# Altium schematic symbol library vestibular_vampire.SchLib: 129 symbols (part 1 of 5)
Pins are listed as number, name and electrical type; pins without a type are passive.

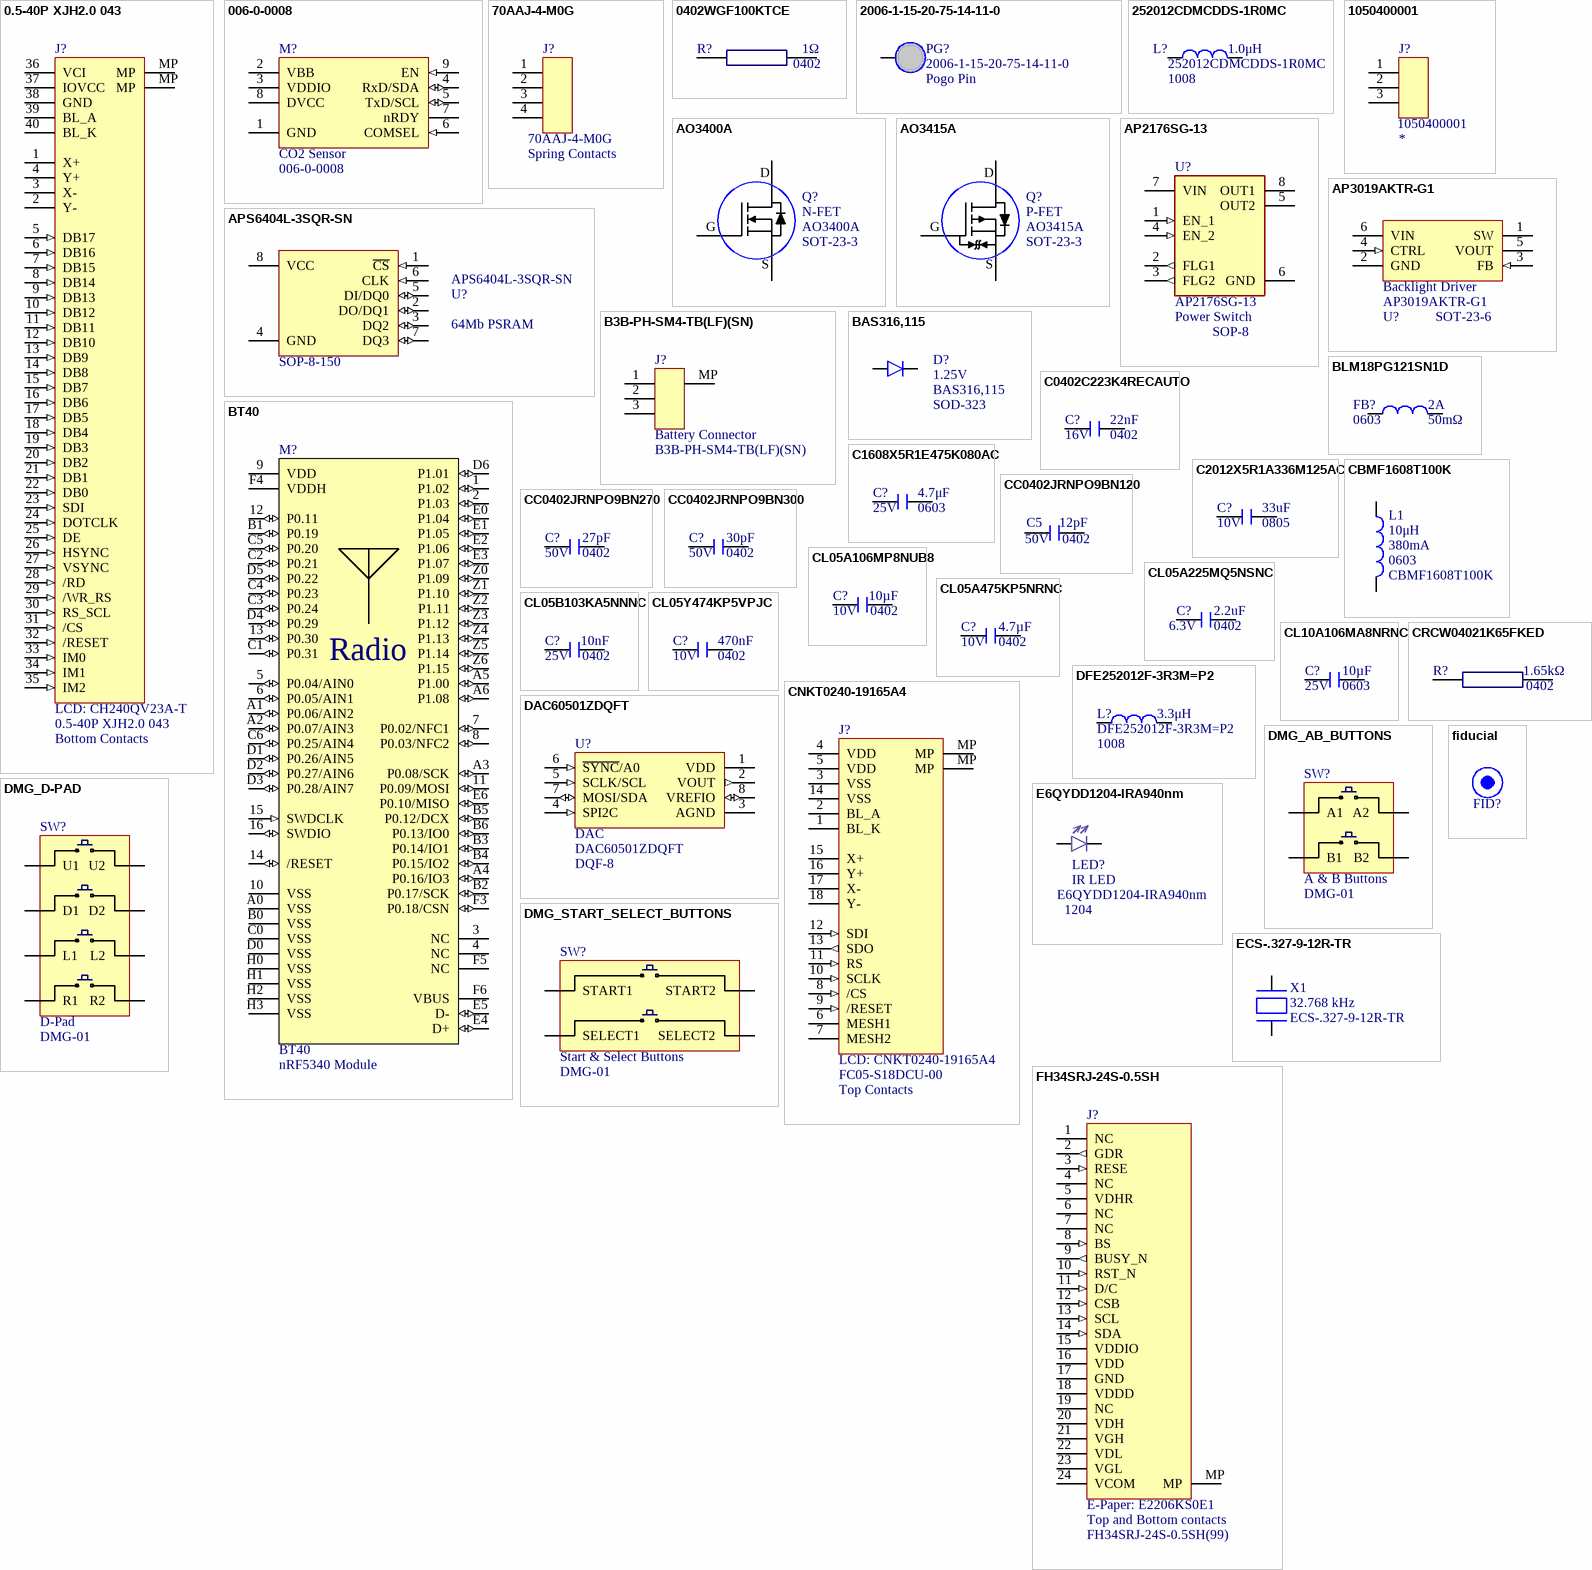
[diagram p0: symbols 0.5-40P XJH2.0 043 to fiducial]

## 0.5-40P XJH2.0 043
designator J?, comment LCD: CH240QV23A-T  contact_side: Bottom Contacts  Manufacturer Part Number: 0.5-40P XJH2.0 043
40-Pin, 0.5 mm pitch, bottom contact, flat flex connector for LCD CH240QV23A-T; Supplier 1: LCSC; Supplier Part Number 1: C5373441; LCD Part Number: CH240QV23A-T; house_part_number: 0.5-40P XJH2.0 043
footprint CH240QV23A-T
pins: 1 X+ "Touch Panel", 2 Y- "Touch Panel", 3 X- "Touch Panel", 4 Y+ "Touch Panel", 5 DB17 (in) "18-bit parallel bi-directional data bus for MCU/RGB I/F. Connect unused pins to GND.", 6 DB16 (in) "18-bit parallel bi-directional data bus for MCU/RGB I/F. Connect unused pins to GND.", 7 DB15 (in) "18-bit parallel bi-directional data bus for MCU/RGB I/F. Connect unused pins to GND.", 8 DB14 (in) "18-bit parallel bi-directional data bus for MCU/RGB I/F. Connect unused pins to GND.", 9 DB13 (in) "18-bit parallel bi-directional data bus for MCU/RGB I/F. Connect unused pins to GND.", 10 DB12 (in) "18-bit parallel bi-directional data bus for MCU/RGB I/F. Connect unused pins to GND.", 11 DB11 (in) "18-bit parallel bi-directional data bus for MCU/RGB I/F. Connect unused pins to GND.", 12 DB10 (in) "18-bit parallel bi-directional data bus for MCU/RGB I/F. Connect unused pins to GND.", 13 DB9 (in) "18-bit parallel bi-directional data bus for MCU/RGB I/F. Connect unused pins to GND.", 14 DB8 (in) "18-bit parallel bi-directional data bus for MCU/RGB I/F. Connect unused pins to GND.", 15 DB7 (in) "18-bit parallel bi-directional data bus for MCU/RGB I/F. Connect unused pins to GND.", 16 DB6 (in) "18-bit parallel bi-directional data bus for MCU/RGB I/F. Connect unused pins to GND.", 17 DB5 (in) "18-bit parallel bi-directional data bus for MCU/RGB I/F. Connect unused pins to GND.", 18 DB4 (in) "18-bit parallel bi-directional data bus for MCU/RGB I/F. Connect unused pins to GND.", 19 DB3 (in) "18-bit parallel bi-directional data bus for MCU/RGB I/F. Connect unused pins to GND.", 20 DB2 (in) "18-bit parallel bi-directional data bus for MCU/RGB I/F. Connect unused pins to GND.", 21 DB1 (in) "18-bit parallel bi-directional data bus for MCU/RGB I/F. Connect unused pins to GND.", 22 DB0 (in) "18-bit parallel bi-directional data bus for MCU/RGB I/F. Connect unused pins to GND.", 23 SDI (in) "Serial input signal in SPI I/F.", 24 DOTCLK (in) "Pixel clock signal in RGB I/F.", 25 DE (in) "Data enable signal in RGB I/F mode", 26 HSYNC (in) "Horizontal sync signal in RGB I/F.", 27 VSYNC (in) "Vertical sync signal in RGB I/F.", 28 /RD (in) "Reads strobe signal to write data when /RD is “Low” in MPU interface.", 29 /WR_RS (in) "MCU: Serves as a write signal and writes data at the rising edge. 4-line SPI: Serves as command or parameter select.", 30 RS_SCL (in) "Display data / command selection in 80-series MPU I/F. RS = ”0” : Command RS = ”1” : Display data. SPI: This pin is used serial interface clock in SPI.", 31 /CS (in) "Chip select input pin (“Low” enable) in MPU I/F and SPI I/F.", 32 /RESET (in) "Reset input pin, Active “L”.", 33 IM0 (in) "System interface Mode", 34 IM1 (in) "System interface Mode", 35 IM2 (in) "System interface Mode", 36 VCI (power) "System power supply.", 37 IOVCC (power) "I/O power supply.", 38 GND (power) "Power ground", 39 BL_A (power) "LED backlight (Anode).", 40 BL_K (power) "LED backlight (Cathode).", MP "Mounting Pad", MP "Mounting Pad"

## 006-0-0008
designator M?, comment CO2 Sensor  Manufacturer Part Number: 006-0-0008
footprint 006-0-0008 (Sunrise CO2 sensor)
pins: 1 GND (power), 2 VBB (power), 3 VDDIO (power), 4 RxD/SDA (io), 5 TxD/SCL (io), 6 COMSEL (in), 7 nRDY (oc), 8 DVCC (power), 9 EN (in)

## 70AAJ-4-M0G
designator J?, comment Spring Contacts  Manufacturer Part Number: 70AAJ-4-M0G
Conn Modular Contact M 4 POS 2.54mm Solder ST SMD 4 Terminal 1 Port Embossed T/R; Manufacturer: Bourns; Gender: Male; Number of Contacts: 4; Voltage Rating (DC): 60V; Number of Ports: 1; Max Current Rating: 3A; Supplier: Digikey; Supplier Part Number 1: 70AAJ-4-M0GCT-ND; RoHS: Yes; Category: Connectors; Stock: 38006; Pricing: 1=1.5, 10=1.305, 25=1.25, 50=1.222, 100=1.1666, 250=1.05544 (USD); Mounting Technology: Surface Mount; Contact Plating: Gold; Material: Copper Alloy; Contact Material: Copper Alloy; Housing Material: Thermoplastic; Min Operating Temperature: -55°C; Max Operating Temperature: 125°C; Packaging: Tape and Reel; Package Quantity: 750; Number of Rows: 1; Termination: Solder; Orientation: Straight; Series: 70AA; Number of Batteries: 4; Voltage Rating: 60V; Length: 10.2mm; Pitch: 2.54mm; Depth: 8.48mm; Radiation Hardening: No; RoHS Compliant: Yes; Reach SVHC Compliant: Unknown; ComponentLink1URL: https://datasheet.ciiva.com/6804/70aam-6804667.pdf?src-supplier=Digikey; ComponentLink1Description: https://datasheet.ciiva.com/6804/70aam-6804667.pdf?src-supplier=Digikey; ComponentLink2URL: https://datasheet.ciiva.com/6804/70aam-6804654.pdf?src-supplier=Digikey; ComponentLink2Description: https://datasheet.ciiva.com/6804/70aam-6804654.pdf?src-supplier=Digikey; ComponentLink3URL: https://datasheet.ciiva.com/3126/70aam-3126990.pdf?src-supplier=Avnet; ComponentLink3Description: https://datasheet.ciiva.com/3126/70aam-3126990.pdf?src-supplier=Avnet; ComponentLink4URL: https://datasheet.ciiva.com/15174/getdatasheetpartid-420580-15174470.pdf?src-supplier=Verical; ComponentLink4Description: https://datasheet.ciiva.com/15174/getdatasheetpartid-420580-15174470.pdf?src-supplier=Verical
footprint 70AAJ-4-M
pins: 1, 2, 3, 4

## 0402WGF100KTCE
designator R?  value 1Ω  Case/Package: 0402  (hidden comment: 0402WGF100KTCE)
1 Ω, 0402 Chip resistor; Manufacturer: Uniroyal; house_part_number: R-1-0402-1%-001; Supplier: LCSC; Supplier Part Number 1: C25086; Manufacturer Part Number: 0402WGF100KTCE; RoHS: No; Stock: 596300; Pricing: 100=0.0008, 1000=0.0006, 3000=0.0005, 50000=0.0004 (USD)
footprint 0402_resistor (Chip Resistor, 2-Leads, Body 1.00x0.50mm, IPC Medium Density)
pins: 1, 2

## 2006-1-15-20-75-14-11-0
designator PG?, comment Pogo Pin  Manufacturer Part Number: 2006-1-15-20-75-14-11-0
Through-hole Spring-loaded Pin W; Manufacturer: Mill-Max; Supplier: Digikey; Supplier Part Number 1: 54-2006-1-15-20-75-14-11-0-ND; RoHS: No; Stock: 1242; Pricing: 1=0.72, 10=0.627, 100=0.5171, 1000=0.37096, 5000=0.326, 10000=0.30352 (USD)
footprint 2006-1-15-20-75-14-11-0 (Pogo Pin)
pins: 1

## 252012CDMCDDS-1R0MC
designator L?  value 1.0μH  Package: 1008  (hidden comment: 252012CDMCDDS-1R0MC)
1 μH, 4.2 A, 1008 Inductor; Manufacturer: Sumida; house_part_number: L-1uH-1008-002; Supplier: Digikey; Supplier Part Number 1: 308-2603-1-ND; RoHS: No; Category: Fixed Inductors; Stock: 45912; Pricing: 1=0.55, 10=0.473, 25=0.434, 50=0.3944, 100=0.3511, 250=0.33132, 500=0.284, 1000=0.25245 (USD); Manufacturer Part Number: 252012CDMCDDS-1R0MC
footprint INDC2520X12N (Chip Inductor, 2-Leads, Body 2.50x2.00mm, IPC Medium Density)
pins: 1, 2

## 1050400001
designator J?  Manufacturer Part Number: 1050400001
3-Pin spring connector, 3.8-4.8mm mating height, SMD; Manufacturer: Molex; Connector Type: PCB; Supplier 1: Digikey; RoHS: Yes; Category: Headers and Wire Housings; Stock 1: 11523; Pricing 1: 1=1.01, 10=0.837, 100=0.6977 (USD); Contact Finish - Mating: NOT SPECIFIED; Reach SVHC Compliant: Yes; RoHS Compliant: Yes; ComponentLink1URL: https://datasheet.ciiva.com:443/pdfs/VipMasterIC/IC/MOLE/MOLE-S-A0001752320/MOLE-S-A0001752320-1.pdf?src-supplier=IHS+Markit; ComponentLink1Description: https://datasheet.ciiva.com:443/pdfs/VipMasterIC/IC/MOLE/MOLE-S-A0001752320/MOLE-S-A0001752320-1.pdf?src-supplier=IHS+Markit; ComponentLink2URL: https://datasheet.ciiva.com/9448/1050400001-pcb-headers-9448069.pdf?src-supplier=Avnet; ComponentLink2Description: https://datasheet.ciiva.com/9448/1050400001-pcb-headers-9448069.pdf?src-supplier=Avnet; ComponentLink3URL: https://datasheet.ciiva.com/14956/1050400001-sd-14956704.pdf?src-supplier=Digikey; ComponentLink3Description: https://datasheet.ciiva.com/14956/1050400001-sd-14956704.pdf?src-supplier=Digikey; ComponentLink4URL: https://datasheet.ciiva.com/6803/1050400001-sd-6803879.pdf?src-supplier=Digikey; ComponentLink4Description: https://datasheet.ciiva.com/6803/1050400001-sd-6803879.pdf?src-supplier=Digikey; Supplier Part Number 1: WM9695CT-ND
footprint 1050400001 (3-Pin spring connector)
pins: 1, 2, 3

## AO3400A
designator Q?, comment N-FET  Case/Package: SOT-23-3  Manufacturer Part Number: AO3400A
N-FET, 30V, 5.7A, SOT-23-3; Manufacturer: Alpha & Omega Semiconductor; Rds On Max: 26.5mR; Input Capacitance: 630pF; Max Power Dissipation: 1.4W; Drain to Source Resistance: 18mR; Number of Channels: 1NUMBER; Threshold Voltage: 650mV; Turn-Off Delay Time: 25ns; Turn-On Delay Time: 3ns; Supplier: Arrow Electronics; Supplier Part Number 1: AO3400A; RoHS: Yes; Category: MOSFETs; Stock: 141000; Pricing: 3000=0.0899, 6000=0.0869, 9000=0.0763, 30000=0.0746, 75000=0.0627 (USD); Mounting Technology: Surface Mount; Min Operating Temperature: -55°C; Max Operating Temperature: 150°C; Packaging: Cut Tape; Drain to Source Voltage (Vdss): 30V; Continuous Drain Current (ID): 5.7A; Series: -; Drain to Source Breakdown Voltage: 30V; Height: 1.25mm; Lead Free: Lead Free; RoHS Compliant: Yes; ComponentLink1URL: https://datasheet.ciiva.com/940/ao3400a-940739.pdf?src-supplier=Digikey; ComponentLink1Description: https://datasheet.ciiva.com/940/ao3400a-940739.pdf?src-supplier=Digikey; ComponentLink2URL: https://datasheet.ciiva.com/26906/getdatasheetpartid-64438-26906526.pdf?src-supplier=Verical; ComponentLink2Description: https://datasheet.ciiva.com/26906/getdatasheetpartid-64438-26906526.pdf?src-supplier=Verical; ComponentLink3URL: https://datasheet.ciiva.com/940/ao3400a-940740.pdf?src-supplier=Digikey; ComponentLink3Description: https://datasheet.ciiva.com/940/ao3400a-940740.pdf?src-supplier=Digikey; ComponentLink4URL: https://datasheet.ciiva.com/940/ao3400a-940741.pdf?src-supplier=Digikey; ComponentLink4Description: https://datasheet.ciiva.com/940/ao3400a-940741.pdf?src-supplier=Digikey; house_part_number: AO3400A
footprint SOT95P280X115-3N (SOT23, 3-Leads, Body 2.92x2.80mm, Pitch 0.95mm, IPC Medium Density)
pins: 1 G, 2 S, 3 D

## AO3415A
designator Q?, comment P-FET  Case/Package: SOT-23-3  Manufacturer Part Number: AO3415A
P-FET, 30V, 6A, SOT-23-3; Manufacturer: Alpha & Omega Semiconductor; Rds On Max: 45mΩ; Input Capacitance: 940pF; Drain to Source Voltage (Vdss): 20V; Continuous Drain Current (ID): 5A; Max Power Dissipation: 1.5W; Threshold Voltage: 8mV; Turn-Off Delay Time: 19ps; Turn-On Delay Time: 13ps; Supplier: Arrow Electronics; Supplier Part Number: AO3415A; RoHS: Yes; Category: MOSFETs; Stock: 21000; Pricing: 3000=0.3033, 6000=0.3003, 9000=0.2972, 15000=0.2942, 24000=0.2912, 30000=0.2881 (USD); Mounting Technology: Surface Mount; Pins: 3; Min Operating Temperature: -55°C; Max Operating Temperature: 150°C; Series: -; Packaging: Cut Tape; RoHS Compliant: Yes; ComponentLink1URL: https://datasheet.ciiva.com/940/ao3415-940752.pdf?src-supplier=Digikey; ComponentLink1Description: https://datasheet.ciiva.com/940/ao3415-940752.pdf?src-supplier=Digikey; ComponentLink2URL: https://datasheet.ciiva.com/940/ao3415-940753.pdf?src-supplier=Digikey; ComponentLink2Description: https://datasheet.ciiva.com/940/ao3415-940753.pdf?src-supplier=Digikey; Supplier 1: LCSC; Supplier Part Number 1: C133233; house_part_number: AO3415A
footprint SOT95P280X115-3N (SOT23, 3-Leads, Body 2.92x2.80mm, Pitch 0.95mm, IPC Medium Density)
pins: 1 G, 2 S, 3 D

## AP2176SG-13
designator U?, comment Power Switch  Case/Package: SOP-8  Manufacturer Part Number: AP2176SG-13
IC USB PWR SWITCH 1A DUAL 8SOP; Manufacturer: Diodes; Number of Outputs: 2; Max Supply Voltage: 5.5V; Min Supply Voltage: 2.7V; Interface: On/Off; Fault Protection: Over Temperature,Reverse Current; Output Configuration: High Side; Supplier: Digikey; Supplier Part Number 1: AP2176SGDICT-ND; RoHS: Yes; Category: Hot Swap Controllers; Stock: 142942; Pricing: 1=0.64, 10=0.572, 25=0.5428, 100=0.4458, 250=0.41672, 500=0.36828, 1000=0.34125 (USD); Mounting Technology: Surface Mount; Pins: 8; Weight: 0.030018oz; Min Operating Temperature: -40°C; Max Operating Temperature: 85°C; Packaging: Tape and Reel; Package Quantity: 2500; Max Output current: 1A; Series: -; Number of Switches: 2; Radiation Hardening: No; Reach SVHC Compliant: Yes; RoHS Compliant: Yes; ComponentLink1URL: https://datasheet.ciiva.com/4924/ap2166-76-85938-4924357.pdf?src-supplier=Mouser; ComponentLink1Description: https://datasheet.ciiva.com/4924/ap2166-76-85938-4924357.pdf?src-supplier=Mouser
footprint SOIC127P600X175-8N
pins: 1 EN_1 (in) "Switch 1 enable input, active high", 2 FLG1 (out) "Switch 1 over-current and over-temperature fault report, open-drain", 3 FLG2 (out) "Switch 2 over-current and over-temperature fault report, open-drain", 4 EN_2 (in) "Switch 2 enable input, active high", 5 OUT2 (power) "Switch 2 voltage output pin", 6 GND (power), 7 VIN (power) "Voltage input", 8 OUT1 (power) "Switch 1 voltage output pin"

## AP3019AKTR-G1
designator U?, comment Backlight Driver  Case/Package: SOT-23-6  Manufacturer Part Number: AP3019AKTR-G1
AP3019A Series 16 V 550 mA 1.2 MHz White LED Step-UP Converter - SOT-23-6; Manufacturer: Diodes; Number of Outputs: 1; Max Supply Voltage: 16V; Topology: Boost; Frequency: 1.2MHz; Output Current per Channel: 550mA; Max Supply Current: 3.2mA; Min Input Voltage: 2.5V; Dimming: PWM; Output Current: 150mA; Max Output Voltage: 38V; Operating Frequency: 1.2 MHz; Supplier: Future Electronics; Supplier Part Number 1: 8048337; RoHS: Yes; Category: LED Drivers; Stock: 3000; Pricing: 3000=0.155, 9000=0.151, 12000=0.15, 30000=0.146, 45000=0.142 (USD); Mounting Technology: Surface Mount; Pins: 6; Weight: 0.000529oz; Min Operating Temperature: -40°C; Max Operating Temperature: 85°C; Packaging: Tape and Reel; Series: -; Package Quantity: 3000; Number of Channels: 1; Switching Frequency: 1.2MHz; RoHS Compliant: Yes; ComponentLink1URL: https://datasheet.ciiva.com/29602/ap3019a-29602771.pdf?src-supplier=Digikey; ComponentLink1Description: https://datasheet.ciiva.com/29602/ap3019a-29602771.pdf?src-supplier=Digikey
footprint SOT95P280X110-6N (SOT23, 6-Leads, Body 2,90x2,80mm, Pitch 0,95mm, IPC Medium Density)
pins: 1 SW (power) "Switch pin. Connect external inductor", 2 GND (power) "Ground", 3 FB (in) "Voltage feedback pin. Reference voltage is 200mV", 4 CTRL (in) "Shutdown and PWM dimming pin. V>1.8=enable", 5 VOUT (power) "Output pin. Connect to the cathode of internal Schottky diode", 6 VIN (power) "Input supply pin. Must be connected to a local bypass capacitor"

## APS6404L-3SQR-SN
designator U?, comment 64Mb PSRAM  Case/Package: SOP-8-150  Manufacturer Part Number: APS6404L-3SQR-SN
8M x8 PSRAM, QSPI, PDSO8; Manufacturer: AP Memory; Supplier: Mouser; Supplier Part Number 1: 878-APS6404L-3SQR-SN; RoHS: No; Stock: 41293; Pricing: 1=1.46, 10=1.34, 50=1.34, 100=1.16, 500=1.15, 1000=1.15, 3000=0.974, 10000=0.974 (USD); house_part_number: APS6404L-3SQR-SN
footprint SOIC127P600X175-8N
pins: 1 ~{CS} (in), 2 DO/DQ1 (io), 3 DQ2 (io), 4 GND (power), 5 DI/DQ0 (io), 6 CLK (in), 7 DQ3 (io), 8 VCC (power)

## B3B-PH-SM4-TB(LF)(SN)
designator J?, comment Battery Connector  Manufacturer Part Number: B3B-PH-SM4-TB(LF)(SN)
3-Pin, 2 mm, PH Series surface-mount connector; Manufacturer: JST; house_part_number: B3B-PH-SM4; Supplier 1: Digi-Key; Supplier Part Number 1: 455-1705-ND; RoHS: Yes; Category: Headers and Wire Housings; Stock 1: 26216; Pricing 1: 1=0.19000, 10=0.18200, 100=0.12620, 500=0.10676, 1000=0.08736, 5000=0.07765, 10000=0.07037 (USD); ComponentLink1URL: https://datasheet.ciiva.com/11746/0900766b80826550-11746939.pdf?src-supplier=RSComponents; ComponentLink1Description: https://datasheet.ciiva.com/11746/0900766b80826550-11746939.pdf?src-supplier=RSComponents; ComponentLink2URL: https://datasheet.ciiva.com/6747/80560-6747401.pdf?src-supplier=Newark; ComponentLink2Description: https://datasheet.ciiva.com/6747/80560-6747401.pdf?src-supplier=Newark; ComponentLink3URL: https://datasheet.ciiva.com/712/eph-712455.pdf?src-supplier=Digi-Key; ComponentLink3Description: https://datasheet.ciiva.com/712/eph-712455.pdf?src-supplier=Digi-Key; ComponentLink4URL: https://datasheet.ciiva.com/16200/eph-16200926.pdf?src-supplier=Future+Electronics; ComponentLink4Description: https://datasheet.ciiva.com/16200/eph-16200926.pdf?src-supplier=Future+Electronics; ComponentLink5URL: https://datasheet.ciiva.com/26894/getdatasheetpartid-448114-26894774.pdf?src-supplier=Verical; ComponentLink5Description: https://datasheet.ciiva.com/26894/getdatasheetpartid-448114-26894774.pdf?src-supplier=Verical; ComponentLink6URL: https://datasheet.ciiva.com/26924/getdatasheetpartid-651387-26924028.pdf?src-supplier=Verical; ComponentLink6Description: https://datasheet.ciiva.com/26924/getdatasheetpartid-651387-26924028.pdf?src-supplier=Verical; ComponentLink7URL: https://datasheet.ciiva.com/43491/741202-da-01-en-stiftleiste-gerade-3-pol-rm2-0-43491962.pdf?src-supplier=Conrad; ComponentLink7Description: https://datasheet.ciiva.com/43491/741202-da-01-en-stiftleiste-gerade-3-pol-rm2-0-43491962.pdf?src-supplier=Conrad
footprint B3B-PH-SM4
pins: 1, 2, 3, MP

## BAS316,115
designator D?  Manufacturer Part Number: BAS316,115  Forward Voltage: 1.25V  Package: SOD-323  (hidden comment: *)
1.25 V, 100 V max, 150 mA, 4 ns diode, SOD-323; Manufacturer: Nexperia; Diode Element Material: SILICON; Package Body Material: Plastic; Diode Type: RECTIFIER; Non-rep Pk Forward Current-Max: 4A; Number of Elements: 1; Max Output current: 250mA; Max Power Dissipation: 400mW; Rep Pk Reverse Voltage-Max: 85V; Max Reverse Current: 1uA; Reverse Recovery Time-Max: 0.004us; Time @ Peak Reflow Temperature-Max (s): 40s; Reference Standard: AEC-Q101; Qualification Status: Not Qualified; Supplier 1: LCSC; RoHS: Yes; Category: Rectifier Diodes; Stock 1: 292660; Pricing 1: 50=0.0098, 500=0.0076, 3000=0.0067, 6000=0.0058, 24000=0.0055, 51000=0.0053 (USD); Pins: 2; Package Shape: Rectangular; Terminal Finish: Tin; Max Operating Temperature: 150°C; JESD-609 Code: e3; JESD-30 Code: R-PDSO-G2; Moisture Sensitivity Level: 1; Package Style: SMALL OUTLINEMeter; Peak Reflow Temperature (Cel): 260°C; Surface Mount: Yes; Terminal Form: Gull Wing; Terminal Position: DUAL; Reach SVHC Compliant: Yes; RoHS Compliant: Yes; ComponentLink1URL: https://datasheet.ciiva.com:443/pdfs/VipMasterIC/IC/PHGL/PHGL-S-A0000133609/PHGL-S-A0000133609-1.pdf?src-supplier=IHS+Markit; ComponentLink1Description: https://datasheet.ciiva.com:443/pdfs/VipMasterIC/IC/PHGL/PHGL-S-A0000133609/PHGL-S-A0000133609-1.pdf?src-supplier=IHS+Markit; ComponentLink2URL: http://www.farnell.com/datasheets/1856332.pdf?src-supplier=Farnell; ComponentLink2Description: http://www.farnell.com/datasheets/1856332.pdf?src-supplier=Farnell; ComponentLink3URL: https://datasheet.octopart.com/BAS316%2C115-Nexperia-datasheet-32749520.pdf?src-supplier=Element14; ComponentLink3Description: https://datasheet.octopart.com/BAS316%2C115-Nexperia-datasheet-32749520.pdf?src-supplier=Element14; ComponentLink4URL: https://datasheet.octopart.com/BAS316%2C115-Nexperia-datasheet-77871323.pdf?src-supplier=Future+Electronics; ComponentLink4Description: https://datasheet.octopart.com/BAS316%2C115-Nexperia-datasheet-77871323.pdf?src-supplier=Future+Electronics; ComponentLink5URL: https://assets.nexperia.com/documents/data-sheet/BAS16_SER.pdf?src-supplier=Digikey; ComponentLink5Description: https://assets.nexperia.com/documents/data-sheet/BAS16_SER.pdf?src-supplier=Digikey; ComponentLink6URL: http://www.farnell.com/datasheets/1856332.pdf?src-supplier=Newark; ComponentLink6Description: http://www.farnell.com/datasheets/1856332.pdf?src-supplier=Newark; ComponentLink7URL: https://datasheet.octopart.com/BAS316%2C115-NXP-datasheet-5319124.pdf?src-supplier=TME; ComponentLink7Description: https://datasheet.octopart.com/BAS316%2C115-NXP-datasheet-5319124.pdf?src-supplier=TME; Supplier Part Number 1: C109218
footprint SOD-323 (Diode Standard 75V 150mA Surface Mount SOD-323)
pins: A, K

## BLM18PG121SN1D
designator FB?  DC Resistance-Max: 50mΩ  Max Current Rating: 2A  Case/Package: 0603  (hidden comment: BLM18PG121SN1D)
Ferrite Beads Multi-Layer 120Ohm 25% 100MHz 2A 50mOhm DCR 0603 Paper T/R; Manufacturer: Murata; Material: Steel,Ferrite; Impedance: 120R; Number of Lines: 1; DC Resistance (DCR): 50mR; Shielding: Unshielded; Supplier: Mouser; Supplier Part Number 1: 81-BLM18PG121SN1D; Manufacturer Part Number: BLM18PG121SN1D; RoHS: Yes; Category: Ferrite Beads and Chips; Stock: 598118; Pricing: 1=0.18, 10=0.147, 50=0.147, 100=0.082, 1000=0.049, 10000=0.041 (USD); Pins: 2; Core Material: Ferrite; Case Code (Metric): 1608; Case Code (Imperial): 0603; Min Operating Temperature: -55°C; Max Operating Temperature: 125°C; Tolerance: 25%; Package Quantity: 1; Packaging: Tape and Reel; Current Rating: 2A; Max DC Current: 2A; Termination: SMD/SMT; Test Frequency: 100MHz; DC Current: 2A; Frequency: 100MHz; Number of Circuits: 1; Series: BLM18P; RMS Current (Irms): 2A; ESR: 50mΩ; Length: 1.6mm; Width: 0.8mm; Height: 0.8mm; Depth: 0.8mm; Radiation Hardening: No; Reach SVHC Compliant: No; Lead Free: Lead Free; RoHS Compliant: Yes; ComponentLink1URL: https://datasheet.ciiva.com/5709/1740433-5709171.pdf?src-supplier=Farnell; ComponentLink1Description: https://datasheet.ciiva.com/5709/1740433-5709171.pdf?src-supplier=Farnell; ComponentLink2URL: https://datasheet.ciiva.com/19454/1845013-19454715.pdf?src-supplier=Jameco; ComponentLink2Description: https://datasheet.ciiva.com/19454/1845013-19454715.pdf?src-supplier=Jameco; ComponentLink3URL: https://datasheet.ciiva.com/11799/0900766b81275ca5-11799546.pdf?src-supplier=Rs; ComponentLink3Description: https://datasheet.ciiva.com/11799/0900766b81275ca5-11799546.pdf?src-supplier=Rs; ComponentLink4URL: https://datasheet.ciiva.com/3854/5emiapbde-1-3854039.pdf?src-supplier=Arrow+Electronics; ComponentLink4Description: https://datasheet.ciiva.com/3854/5emiapbde-1-3854039.pdf?src-supplier=Arrow+Electronics; ComponentLink5URL: https://datasheet.ciiva.com/29347/442365-da-01-en-chip-drossel-0603-120r-2000ma-1-6x0-8mm-29347911.pdf?src-supplier=Conrad; ComponentLink5Description: https://datasheet.ciiva.com/29347/442365-da-01-en-chip-drossel-0603-120r-2000ma-1-6x0-8mm-29347911.pdf?src-supplier=Conrad; ComponentLink6URL: https://datasheet.ciiva.com/8021/1740433-8021493.pdf?src-supplier=Element14; ComponentLink6Description: https://datasheet.ciiva.com/8021/1740433-8021493.pdf?src-supplier=Element14; ComponentLink7URL: https://datasheet.ciiva.com/8021/1740433-8021494.pdf?src-supplier=Element14; ComponentLink7Description: https://datasheet.ciiva.com/8021/1740433-8021494.pdf?src-supplier=Element14; ComponentLink8URL: https://datasheet.ciiva.com/14122/blm-series-eng-tds-14122905.pdf?src-supplier=Distrelec; ComponentLink8Description: https://datasheet.ciiva.com/14122/blm-series-eng-tds-14122905.pdf?src-supplier=Distrelec; ComponentLink9URL: https://datasheet.ciiva.com/6212/l0110s0100blm18p-6212502.pdf?src-supplier=Digikey; ComponentLink9Description: https://datasheet.ciiva.com/6212/l0110s0100blm18p-6212502.pdf?src-supplier=Digikey; ComponentLink10URL: https://datasheet.ciiva.com/6212/l0110s0100blm18p-6212504.pdf?src-supplier=Digikey; ComponentLink10Description: https://datasheet.ciiva.com/6212/l0110s0100blm18p-6212504.pdf?src-supplier=Digikey; ComponentLink11URL: https://datasheet.ciiva.com/3081/l0110s0100blm18p-3081632.pdf?src-supplier=Avnet; ComponentLink11Description: https://datasheet.ciiva.com/3081/l0110s0100blm18p-3081632.pdf?src-supplier=Avnet; ComponentLink12URL: https://datasheet.ciiva.com/41449/001172297-da-01-en-drossel-0603-120r-1-6x0-8mm-4000st-41449659.pdf?src-supplier=Conrad; ComponentLink12Description: https://datasheet.ciiva.com/41449/001172297-da-01-en-drossel-0603-120r-1-6x0-8mm-4000st-41449659.pdf?src-supplier=Conrad
footprint 0603_inductor (Chip Inductor, 2-Leads, Body 1.60x0.80mm, IPC Medium Density)
pins: 1, 2

## BT40
designator M?, comment nRF5340 Module  Manufacturer Part Number: BT40
Bluetooth Module: 802.15.1 BLE 5.1, 802.15.4, nRF5340, PCB trace antenna; Manufacturer: Fanstel; Supplier: Digikey; Supplier Part Number: 1914-BT40CT-ND; RoHS: No; Stock: 407; Pricing: 1=13.74, 10=12.435, 25=11.4536, 100=10.4717, 250=9.8172, 500=9.16272 (USD); Supplier 1: Digikey; Supplier Part Number 1: 1914-BT40CT-ND
footprint BT40 (BLE Module)
pins: 1 P1.02 (io) "GPIO, configured as I2C SDA on EV board", 2 P1.03 (io) "GPIO, configured as I2C SCL on EV board", 3 NC "Not connected", 4 NC "Not connected", 5 P0.04/AIN0 (io) "GPIO, Analog input", 6 P0.05/AIN1 (io) "GPIO, Analog input", 7 P0.02/NFC1 (io) "GPIO, NFC antenna connection", 8 P0.03/NFC2 (io) "GPIO, NFC antenna connection", 9 VDD (power) "DC supply 1.7V to 3.6V", 10 VSS (power) "Ground", 11 P0.09/MOSI (io) "GPIO; BT40F high speed SPI_MOSI.", 12 P0.11 (io) "GPIO", 13 P0.30 (io) "GPIO", 14 /RESET (io) "GPIO, reset with internal pull up, active low.", 15 SWDCLK (in) "Serial Wire Debug clock input", 16 SWDIO (io) "Serial Wire Debug I/O", A0 VSS (power) "Ground", A1 P0.06/AIN2 (io) "GPIO, Analog input", A2 P0.07/AIN3 (io) "GPIO, Analog input", A3 P0.08/SCK (io) "GPIO; BT40F, high speed SPI clock", A4 P0.16/IO3 (io) "GPIO; BT40F, high speed SPI IO3", A5 P1.00 (io) "GPIO", A6 P1.08 (io) "GPIO, Connected to nRF21540 MOSI pin internally for BT40N.", B0 VSS (power) "Ground", B1 P0.19 (io) "GPIO", B2 P0.17/SCK (io) "GPIO, BT40F QSPI clock.", B3 P0.14/IO1 (io) "GPIO, BT40F QSPI IO1", B4 P0.15/IO2 (io) "GPIO, BT40F QSPI IO2", B5 P0.12/DCX (io) "GPIO, BT40F high speed SPI DCX.", B6 P0.13/IO0 (io) "GPIO, BT40F QSPI IO0", C0 VSS (power) "Ground", C1 P0.31 (io) "GPIO", C2 P0.21 (io) "GPIO; Connected to nRF21540 TX_EN pin internally for BT40N.", C3 P0.24 (io) "GPIO;", C4 P0.23 (io) "GPIO", C5 P0.20 (io) "GPIO", C6 P0.25/AIN4 (io) "GPIO, BT40F, analog input; Connected to nRF21540 MISO pin internally for BT40N.", D0 VSS (power) "Ground", D1 P0.26/AIN5 (io) "GPIO, BT40F, analog input; Connected to nRF21540 PDN pin internally for BT40N.", D2 P0.27/AIN6 (io) "GPIO, BT40F analog input; Connected to nRF21540 RX_EN pin internally for BT40N.", D3 P0.28/AIN7 (io) "GPIO, BT40F analog input.", D4 P0.29 (io) "GPIO", D5 P0.22 (io) "GPIO", D6 P1.01 (io) "GPIO", E0 P1.04 (io) "GPIO; Connected to nRF21540 MODE internally for BT40N.", E1 P1.05 (io) "GPIO; Connected to nRF21540 ANT-SEL internally for BT40N.", E2 P1.06 (io) "GPIO; Connected to nRF21540 CSN pin internally for BT40N.", E3 P1.07 (io) "GPIO", E4 D+ (io) "USB D+", E5 D- (io) "USB D-", E6 P0.10/MISO (io) "GPIO, BT40F high speed SPI MISO", F3 P0.18/CSN (io) "GPIO, BT40F QSPI chip select", F4 VDDH (power) "High Voltage Power Supply, 2.5V to 5.5V", F5 NC "Not connected", F6 VBUS (power) "5V DC power for USB 3.3V regulator", H0 VSS (power) "Ground pad", H1 VSS (power) "Ground pad", H2 VSS (power) "Ground pad", H3 VSS (power) "Ground pad", Z0 P1.09 (io) "GPIO", Z1 P1.10 (io) "GPIO", Z2 P1.11 (io) "GPIO;", Z3 P1.12 (io) "GPIO;", Z4 P1.13 (io) "GPIO;", Z5 P1.14 (io) "GPIO", Z6 P1.15 (io) "GPIO, Connected to nRF21540 SCK pin internally for BT40N."
text: Radio

## C0402C223K4RECAUTO
designator C?  value 22nF  Voltage Rating: 16V  Case/Package: 0402  (hidden comment: C0402C223K4RECAUTO)
22 nF, 16 V, X7R, 0402 Chip capacitor; Manufacturer: KEMET; Tolerance: 10%; Supplier: Mouser; Supplier Part Number: 80-C0402C223K4RECAUT; Manufacturer Part Number: C0402C223K4RECAUTO; RoHS: Yes; Category: Ceramic Capacitors; Stock: 25248; Pricing: 1=0.13, 10=0.054, 50=0.054, 100=0.031, 1000=0.027, 10000=0.023 (USD); Mounting Technology: Surface Mount; Case Code (Imperial): 0402; Case Code (Metric): 1005; Min Operating Temperature: -55°C; Max Operating Temperature: 125°C; Packaging: Cut Tape; Series: C; Dielectric: X7R; Voltage Rating (DC): 16V; Ratings: AEC-Q200; RoHS Compliant: Yes; ComponentLink1URL: https://api.kemet.com/component-edge/download/datasheet/C0402C223K4RECAUTO.pdf?src-supplier=Digikey; ComponentLink1Description: https://api.kemet.com/component-edge/download/datasheet/C0402C223K4RECAUTO.pdf?src-supplier=Digikey; ComponentLink2URL: https://datasheet.octopart.com/C0402C223K4RECAUTO-KEMET-datasheet-153706760.pdf?src-supplier=Electro+Sonic; ComponentLink2Description: https://datasheet.octopart.com/C0402C223K4RECAUTO-KEMET-datasheet-153706760.pdf?src-supplier=Electro+Sonic
footprint 0402_capacitor (0402 chip capacitor)
pins: 1, 2

## C1608X5R1E475K080AC
designator C?  value 4.7μF  Case/Package: 0603  Voltage Rating: 25V  (hidden comment: C1608X5R1E475K080AC)
4.7 μF, 25 V, X7R, 0603 Chip capacitor; Manufacturer: TDK; Dielectric Material: Ceramic; Tolerance: 10%; Dielectric: X5R; Supplier: Digikey; Supplier Part Number: 445-9050-1-ND; Manufacturer Part Number: C1608X5R1E475K080AC; RoHS: Yes; Category: Ceramic Capacitors; Stock: 1983872; Pricing: 1=0.16, 10=0.104, 50=0.0732, 100=0.0592, 500=0.04396, 1000=0.03847, 4000=0.03389, 8000=0.03225 (USD); Mounting Technology: Surface Mount; Case Code (Metric): 1608; Case Code (Imperial): 0603; Weight: 7.1E-05oz; Material: Ceramic; Min Operating Temperature: -55°C; Max Operating Temperature: 85°C; Packaging: Tape and Reel; Package Quantity: 4000; Voltage Rating (DC): 25V; Termination: SMD/SMT; Series: C; Construction: Flat; Length: 1.6mm; Width: 0.031inch; Height: 0.8mm; Thickness: 0.039inch; Depth: 0.8mm; Lead Free: Lead Free; RoHS Compliant: Yes; Reach SVHC Compliant: Unknown; ComponentLink1URL: https://datasheet.ciiva.com/48671/mlcc-commercial-general-en-48671304.pdf?src-supplier=Avnet; ComponentLink1Description: https://datasheet.ciiva.com/48671/mlcc-commercial-general-en-48671304.pdf?src-supplier=Avnet; ComponentLink2URL: https://datasheet.ciiva.com/24216/mlcc-commercial-general-en-24216326.pdf?src-supplier=Mouser; ComponentLink2Description: https://datasheet.ciiva.com/24216/mlcc-commercial-general-en-24216326.pdf?src-supplier=Mouser; ComponentLink3URL: https://datasheet.ciiva.com/48587/6print-detail-pdf-phplangenpart-noc1608x5r1e475k080acimp-unit-xmhz-48587141.pdf?src-supplier=Onlinecomponents.com; ComponentLink3Description: https://datasheet.ciiva.com/48587/6print-detail-pdf-phplangenpart-noc1608x5r1e475k080acimp-unit-xmhz-48587141.pdf?src-supplier=Onlinecomponents.com
footprint 0603_capacitor (Chip Capacitor, 2-Leads, Body 1.60x0.80mm, IPC Medium Density)
pins: 1, 2

## C2012X5R1A336M125AC
designator C?  value 33uF  Voltage Rating: 10V  Case/Package: 0805  (hidden comment: C2012X5R1A336M125AC)
33 μF, 10 V, X5R, 0603 Chip capacitor; Manufacturer: TDK; Dielectric Material: Ceramic; Tolerance: 20%; Supplier: Digikey; Supplier Part Number: 445-8238-1-ND; Manufacturer Part Number: C2012X5R1A336M125AC; RoHS: Yes; Category: Ceramic Capacitors; Stock: 154800; Pricing: 1=0.79, 10=0.574, 50=0.502, 100=0.4091, 500=0.33472, 1000=0.28823, 2000=0.26964, 4000=0.25569, 10000=0.24639, 14000=0.2423 (USD); Mounting Technology: Surface Mount; Case Code (Metric): 2012; Case Code (Imperial): 0805; Weight: 0.000194oz; Material: Ceramic; Min Operating Temperature: -55°C; Max Operating Temperature: 85°C; Packaging: Tape and Reel; Package Quantity: 1; Voltage Rating (DC): 10V; Dielectric: X5R; Termination: SMD/SMT; Series: C; Length: 2mm; Width: 0.049inch; Height: 1.25mm; Thickness: 0.057inch; Depth: 1.25mm; Reach SVHC Compliant: No; Lead Free: Lead Free; RoHS Compliant: Yes; ComponentLink1URL: https://datasheet.ciiva.com/24216/c2012x5r1a336m125ac-264804-24216541.pdf?src-supplier=Mouser; ComponentLink1Description: https://datasheet.ciiva.com/24216/c2012x5r1a336m125ac-264804-24216541.pdf?src-supplier=Mouser; ComponentLink2URL: https://datasheet.ciiva.com/6259/tdkmlcccaprange-6259263.pdf?src-supplier=Digikey; ComponentLink2Description: https://datasheet.ciiva.com/6259/tdkmlcccaprange-6259263.pdf?src-supplier=Digikey
footprint 0805_capacitor (Chip Capacitor, 2-Leads, Body 2.00x1.25mm, IPC Medium Density)
pins: 1, 2

## CBMF1608T100K
designator L1  Inductance: 10μH  Case Code (Imperial): 0603  Current Rating: 380mA  (hidden comment: CBMF1608T100K)
10 μH, 380 mA, 0603 Chip inductor; Manufacturer: Taiyo Yuden; house_part_number: L-10uH-0603-002; Core Material: Ferrite; Saturation Current: 115mA; Tolerance: 10%; Shielding: Unshielded; Self Resonant Frequency: 32MHz; DC Resistance (DCR): 468mR; Test Frequency: 2.52MHz; Supplier 1: Digi-Key; Supplier Part Number 1: 587-1720-1-ND; RoHS: Yes; Category: Fixed Inductors; Stock 1: 107659; Pricing 1: 1=0.23000, 10=0.20800, 25=0.18200, 50=0.15600, 100=0.14300, 250=0.13000, 500=0.12220, 1000=0.09360 (USD); Mount: Surface Mount; Case/Package: 0603; Case Code (Metric): 1608; Min Operating Temperature: -40°C; Max Operating Temperature: 105°C; Package Quantity: 3000; Packaging: Tape and Reel; Inductance Tolerance: 10%; Resistor Type: Wirewound; Max DC Current: 380mA; Termination: SMD/SMT; DC Current: 380mA; Series: CB; Length: 0.063inch; Width: 0.031inch; Height: 0.8mm; Height - Seated (Max): 0.039inch; Depth: 1mm; Radiation Hardening: No; REACH SVHC: Unknown; Military Standard: Not; Lead Free: Lead Free; Halogen Free: Halogen Free; RoHS Compliant: Yes; ComponentLink1URL: https://datasheet.ciiva.com/1040/cbmf1608t100k-ss-1040608.pdf?src-supplier=Digi-Key; ComponentLink1Description: https://datasheet.ciiva.com/1040/cbmf1608t100k-ss-1040608.pdf?src-supplier=Digi-Key; ComponentLink2URL: https://datasheet.ciiva.com/26871/getdatasheetpartid-638595-26871191.pdf?src-supplier=Verical; ComponentLink2Description: https://datasheet.ciiva.com/26871/getdatasheetpartid-638595-26871191.pdf?src-supplier=Verical; ComponentLink3URL: https://datasheet.ciiva.com/15981/521cbmf1608t100k-15981672.pdf?src-supplier=Onlinecomponents.com; ComponentLink3Description: https://datasheet.ciiva.com/15981/521cbmf1608t100k-15981672.pdf?src-supplier=Onlinecomponents.com; ComponentLink4URL: https://datasheet.ciiva.com/46395/1521599-46395181.pdf?src-supplier=Element14; ComponentLink4Description: https://datasheet.ciiva.com/46395/1521599-46395181.pdf?src-supplier=Element14; Manufacturer Part Number: CBMF1608T100K
footprint 0603_inductor (Chip Inductor, 2-Leads, Body 1.60x0.80mm, IPC Medium Density)
pins: 1, 2

## CC0402JRNPO9BN120
designator C5  Case Code (Imperial): 0402  Voltage Rating: 50V  Capacitance: 12pF  (hidden comment: CC0402JRNPO9BN120)
12 pF, 50 V, C0G, 0402 Chip capacitor; Manufacturer: Yageo; house_part_number: C-12pF-0402-001; Tolerance: 5%; Supplier 1: Digi-Key; Manufacturer Part Number: CC0402JRNPO9BN120; RoHS: Yes; Category: Ceramic Capacitors; Stock 1: 346971; Pricing 1: 1=0.10000, 10=0.02000, 50=0.01080, 100=0.00890, 500=0.00636, 1000=0.00499, 2500=0.00454, 5000=0.00417 (USD); Mount: Surface Mount; Case/Package: 0402; Number of Pins: 2; Case Code (Metric): 1005; Min Operating Temperature: -55°C; Max Operating Temperature: 125°C; Package Quantity: 1; Packaging: Tape and Reel; Voltage Rating (DC): 50V; Dielectric: C0G; Termination: SMD/SMT; Resistor Type: Ceramic; Series: CC; Length: 1mm; Width: 0.02inch; Height: 0.5mm; Thickness: 0.022inch; Depth: 0.5mm; Radiation Hardening: No; REACH SVHC: No SVHC; Lead Free: Lead Free; RoHS Compliant: Yes; ComponentLink1URL: https://datasheet.ciiva.com/161/mlccorderingcode-161488.pdf?src-supplier=Digi-Key; ComponentLink1Description: https://datasheet.ciiva.com/161/mlccorderingcode-161488.pdf?src-supplier=Digi-Key; ComponentLink2URL: https://datasheet.ciiva.com/5425/upy-gp-np0-16v-to-50v-8-5425431.pdf?src-supplier=Mouser; ComponentLink2Description: https://datasheet.ciiva.com/5425/upy-gp-np0-16v-to-50v-8-5425431.pdf?src-supplier=Mouser; ComponentLink3URL: https://datasheet.ciiva.com/11587/upy-gp-np0-16v-to-50v-8-11587083.pdf?src-supplier=Avnet; ComponentLink3Description: https://datasheet.ciiva.com/11587/upy-gp-np0-16v-to-50v-8-11587083.pdf?src-supplier=Avnet; ComponentLink4URL: https://datasheet.ciiva.com/17434/upy-gp-np0-16v-to-50v-8-17434331.pdf?src-supplier=Avnet+Europe; ComponentLink4Description: https://datasheet.ciiva.com/17434/upy-gp-np0-16v-to-50v-8-17434331.pdf?src-supplier=Avnet+Europe; ComponentLink5URL: https://datasheet.ciiva.com/161/mlccorderingcode-161486.pdf?src-supplier=Digi-Key; ComponentLink5Description: https://datasheet.ciiva.com/161/mlccorderingcode-161486.pdf?src-supplier=Digi-Key; ComponentLink6URL: https://datasheet.ciiva.com/28450/1443161-28450222.pdf?src-supplier=Element14; ComponentLink6Description: https://datasheet.ciiva.com/28450/1443161-28450222.pdf?src-supplier=Element14; ComponentLink7URL: https://datasheet.ciiva.com/161/mlccorderingcode-161487.pdf?src-supplier=Digi-Key; ComponentLink7Description: https://datasheet.ciiva.com/161/mlccorderingcode-161487.pdf?src-supplier=Digi-Key; Supplier Part Number 1: 311-1016-1-ND
footprint 0402_capacitor (0402 chip capacitor)
pins: 1, 2

## CC0402JRNPO9BN270
designator C?  value 27pF  Voltage Rating (DC): 50V  Case/Package: 0402  (hidden comment: CC0402JRNPO9BN270)
27 pF, 25 V, X7R, 0402 Chip capacitor; Manufacturer: Yageo; house_part_number: C-27pF-0402-002; Tolerance: 5%; Dielectric: C0G; Supplier 1: Future Electronics; Supplier Part Number 1: 9741513; Manufacturer Part Number: CC0402JRNPO9BN270; RoHS: Yes; Category: Ceramic Capacitors; Stock: 1230000; Pricing: 10000=0.0024, 40000=0.0022, 150000=0.0021, 400000=0.002, 1000000=0.0019 (USD); Mounting Technology: Surface Mount; Pins: 2; Case Code (Metric): 1005; Case Code (Imperial): 0402; Min Operating Temperature: -55°C; Max Operating Temperature: 125°C; Voltage Rating: 50V; Package Quantity: 1; Packaging: Tape and Reel; Termination: SMD/SMT; Series: CC; Length: 1mm; Width: 0.02inch; Thickness: 0.022inch; Depth: 0.5mm; Radiation Hardening: No; Reach SVHC Compliant: No; Lead Free: Lead Free; RoHS Compliant: Yes; ComponentLink1URL: https://datasheet.ciiva.com/26862/getdatasheetpartid-403452-26862597.pdf?src-supplier=Verical; ComponentLink1Description: https://datasheet.ciiva.com/26862/getdatasheetpartid-403452-26862597.pdf?src-supplier=Verical; ComponentLink2URL: https://datasheet.ciiva.com/28450/1443161-28450249.pdf?src-supplier=Element14; ComponentLink2Description: https://datasheet.ciiva.com/28450/1443161-28450249.pdf?src-supplier=Element14; ComponentLink3URL: https://datasheet.ciiva.com/176/mlccorderingcode-176355.pdf?src-supplier=Digikey; ComponentLink3Description: https://datasheet.ciiva.com/176/mlccorderingcode-176355.pdf?src-supplier=Digikey; ComponentLink4URL: https://datasheet.ciiva.com/176/mlccorderingcode-176354.pdf?src-supplier=Digikey; ComponentLink4Description: https://datasheet.ciiva.com/176/mlccorderingcode-176354.pdf?src-supplier=Digikey; ComponentLink5URL: https://datasheet.ciiva.com/176/mlccorderingcode-176356.pdf?src-supplier=Digikey; ComponentLink5Description: https://datasheet.ciiva.com/176/mlccorderingcode-176356.pdf?src-supplier=Digikey; ComponentLink6URL: https://datasheet.ciiva.com/13386/upy-gp-np0-16v-to-50v-8-13386281.pdf?src-supplier=Mouser; ComponentLink6Description: https://datasheet.ciiva.com/13386/upy-gp-np0-16v-to-50v-8-13386281.pdf?src-supplier=Mouser
footprint 0402_capacitor (0402 chip capacitor)
pins: 1, 2

## CC0402JRNPO9BN300
designator C?  value 30pF  Voltage Rating: 50V  Case/Package: 0402  (hidden comment: CC0402JRNPO9BN300)
30 pF, 50 V, C0G, 0402 Chip capacitor; Manufacturer: Yageo; house_part_number: C-30pF-0402-002; Tolerance: 5%; Dielectric: NP0; Temperature Coefficient: 30ppm/°C; Supplier 1: Digikey; Supplier Part Number 1: 311-1666-1-ND; Manufacturer Part Number: CC0402JRNPO9BN300; RoHS: Yes; Category: Ceramic Capacitors; Stock: 48712; Pricing: 1=0.1, 10=0.035, 50=0.0202, 100=0.0156, 500=0.01174, 1000=0.00922, 2500=0.00838, 5000=0.00771 (USD); Mounting Technology: Surface Mount; Pins: 2; Case Code (Imperial): 0402; Case Code (Metric): 1005; Weight: 2.3E-05oz; Min Operating Temperature: -55°C; Max Operating Temperature: 125°C; Voltage Rating (DC): 50V; Packaging: Tape and Reel; Termination: SMD/SMT; Series: CC; Length: 0.039inch; Width: 0.02inch; Thickness: 0.022inch; Lead Free: Lead Free; RoHS Compliant: Yes; Halogen Free: 5694HalogenFree; ComponentLink1URL: https://datasheet.ciiva.com/13263/upy-gp-np0-16v-to-50v-8-3714-13263961.pdf?src-supplier=Mouser; ComponentLink1Description: https://datasheet.ciiva.com/13263/upy-gp-np0-16v-to-50v-8-3714-13263961.pdf?src-supplier=Mouser
footprint 0402_capacitor (0402 chip capacitor)
pins: 1, 2

## CL05A106MP8NUB8
designator C?, comment Capacitance: 10µF  Voltage Rating: 10V  Case Code (Imperial): 0402  (hidden comment: CC0402JRNPO9BN300)
10 µF, 10 V, X5R, 0402 Chip capacitor; Manufacturer: Samsung; Manufacturer Part Number: CL05A106MP8NUB8; house_part_number: C-10uF-0402-002; Tolerance: 20%; Supplier 1: Digi-Key; Supplier Part Number 1: 1276-6830-1-ND; RoHS: Yes; Category: Ceramic Capacitors; Stock 1: 740658; Pricing 1: 1=0.36000, 10=0.25300, 50=0.17720, 100=0.15180, 500=0.11384, 1000=0.09614, 2500=0.09108 (USD); Mount: Surface Mount; Case/Package: 0402; Case Code (Metric): 1005; Min Operating Temperature: -55°C; Max Operating Temperature: 85°C; Packaging: Tape and Reel; Length: 0.039inch; Width: 0.02inch; Thickness: 0.035inch; RoHS Compliant: Yes; ComponentLink1URL: http://www.samsungsem.com/kr/support/product-search/mlcc/CL05A106MP8NUB8.jsp?src-supplier=Digi-Key; ComponentLink1Description: http://www.samsungsem.com/kr/support/product-search/mlcc/CL05A106MP8NUB8.jsp?src-supplier=Digi-Key
footprint 0402_capacitor (0402 chip capacitor)
pins: 1, 2

## CL05A225MQ5NSNC
designator C?  value 2.2uF  Voltage Rating: 6.3V  Case/Package: 0402  (hidden comment: CL05A225MQ5NSNC)
2.2 µF, 6.3 V, X5R, 0402 Chip capacitor; Manufacturer: Samsung; house_part_number: C-2.2uF-0402-002; Material: 4241ConductorMaterial; Tolerance: 20%; Supplier 1: Arrow Electronics; Supplier Part Number 1: CL05A225MQ5NSNC; Manufacturer Part Number: CL05A225MQ5NSNC; RoHS: Yes; Category: Ceramic Capacitors; Stock: 1450000; Pricing: 10000=0.0082, 50000=0.0081, 100000=0.0058 (USD); Mounting Technology: Surface Mount; Case Code (Metric): 1005; Case Code (Imperial): 0402; Min Operating Temperature: -55°C; Max Operating Temperature: 85°C; Packaging: Tape and Reel; Package Quantity: 10000; Dielectric: X5R; Series: CL; Construction: Flat; Length: 1mm; Width: 0.02inch; Height: 0.5mm; Thickness: 0.022inch; Depth: 0.5mm; Radiation Hardening: No; Lead Free: Lead Free; RoHS Compliant: Yes; ComponentLink1URL: https://datasheet.ciiva.com/25787/cl05a225mq5nsnc-25787732.pdf?src-supplier=Digikey; ComponentLink1Description: https://datasheet.ciiva.com/25787/cl05a225mq5nsnc-25787732.pdf?src-supplier=Digikey; ComponentLink2URL: https://datasheet.ciiva.com/16389/cl05a225mq5nsnc-16389143.pdf?src-supplier=Future+Electronics; ComponentLink2Description: https://datasheet.ciiva.com/16389/cl05a225mq5nsnc-16389143.pdf?src-supplier=Future+Electronics; ComponentLink3URL: https://datasheet.ciiva.com/26838/getdatasheetpartid-745380-26838186.pdf?src-supplier=Verical; ComponentLink3Description: https://datasheet.ciiva.com/26838/getdatasheetpartid-745380-26838186.pdf?src-supplier=Verical
footprint 0402_capacitor (0402 chip capacitor)
pins: 1, 2

## CL05A475KP5NRNC
designator C?  value 4.7µF  Voltage Rating: 10V  Case/Package: 0402  (hidden comment: CL05A475KP5NRNC)
4.7 µF, 10 V, X5R, 0402 Chip capacitor; Manufacturer: Samsung; house_part_number: C-4.7uF-0402-002; Material: Ceramic; Tolerance: 10%; Supplier 1: Digikey; Supplier Part Number 1: 1276-1480-1-ND; Manufacturer Part Number: CL05A475KP5NRNC; RoHS: Yes; Category: Ceramic Capacitors; Stock: 606274; Pricing: 1=0.28, 10=0.184, 50=0.129, 100=0.1042, 500=0.0774, 1000=0.06772, 2500=0.0645, 5000=0.05966 (USD); Mounting Technology: Surface Mount; Case Code (Metric): 1005; Case Code (Imperial): 0402; Min Operating Temperature: -55°C; Max Operating Temperature: 85°C; Packaging: Tape and Reel; Package Quantity: 1; Dielectric: X5R; Series: CL; Construction: Flat; Length: 1mm; Width: 0.02inch; Height: 0.5mm; Thickness: 0.022inch; Depth: 0.5mm; Radiation Hardening: No; RoHS Compliant: Yes; Lead Free: Lead Free; ComponentLink1URL: https://datasheet.ciiva.com/25724/cl05a475kp5nrnc-25724404.pdf?src-supplier=Digikey; ComponentLink1Description: https://datasheet.ciiva.com/25724/cl05a475kp5nrnc-25724404.pdf?src-supplier=Digikey; ComponentLink2URL: https://datasheet.ciiva.com/29198/458873-da-01-en-vs-kondensator-0402-29198304.pdf?src-supplier=Conrad; ComponentLink2Description: https://datasheet.ciiva.com/29198/458873-da-01-en-vs-kondensator-0402-29198304.pdf?src-supplier=Conrad
footprint 0402_capacitor (0402 chip capacitor)
pins: 1, 2

## CL05B103KA5NNNC
designator C?  Capacitance: 10nF  Voltage Rating: 25V  Case Code (Imperial): 0402  (hidden comment: CL05B103KA5NNNC)
10 nF, 25 V, X7R, 0402 Chip capacitor; Manufacturer: Samsung; house_part_number: C-10nF-0402-002; Tolerance: 10%; Supplier 1: Digi-Key; Supplier Part Number 1: 1276-1057-2-ND; RoHS: Yes; Category: Ceramic Capacitors; Stock 1: 2318300; Pricing 1: 10000=0.00328, 20000=0.00312, 30000=0.00297, 50000=0.00266, 100000=0.00215, 250000=0.00195 (USD); Mount: Surface Mount; Case/Package: 0402; Case Code (Metric): 1005; Contact Plating: Tin; Min Operating Temperature: -55°C; Max Operating Temperature: 125°C; Packaging: Tape and Reel; Package Quantity: 1; Dielectric: X7R; Series: CL; Construction: Flat; Length: 1mm; Width: 0.02inch; Height: 0.5mm; Thickness: 0.022inch; Depth: 0.5mm; Radiation Hardening: No; RoHS Compliant: Yes; ComponentLink1URL: https://datasheet.ciiva.com/15195/getdatasheetpartid-358612-15195635.pdf?src-supplier=Verical; ComponentLink1Description: https://datasheet.ciiva.com/15195/getdatasheetpartid-358612-15195635.pdf?src-supplier=Verical; ComponentLink2URL: https://datasheet.ciiva.com/16740/cl05b104kq5nnnc-16740683.pdf?src-supplier=Future+Electronics; ComponentLink2Description: https://datasheet.ciiva.com/16740/cl05b104kq5nnnc-16740683.pdf?src-supplier=Future+Electronics; Manufacturer Part Number: CL05B103KA5NNNC
footprint 0402_capacitor (0402 chip capacitor)
pins: 1, 2

## CL05Y474KP5VPJC
designator C?  Capacitance: 470nF  Voltage Rating: 10V  Case/Package: 0402  (hidden comment: CL05Y474KP5VPJC)
470 nF, 10 V, X7S, 0402 Chip capacitor; Manufacturer: Samsung; Supplier: Digikey; Supplier Part Number: 1276-CL05Y474KP5VPJCCT-ND; Manufacturer Part Number: CL05Y474KP5VPJC; RoHS: No; Category: Ceramic Capacitors; Stock: 27105; Pricing: 1=0.23, 10=0.15, 50=0.105, 100=0.0848, 500=0.06298, 1000=0.0551, 2500=0.05248, 5000=0.04854 (USD)
footprint 0402_capacitor (0402 chip capacitor)
pins: 1, 2

## CL10A106MA8NRNC
designator C?, comment value 10µF  Voltage Rating: 25V  Case/Package: 0603  (hidden comment: CC0402JRNPO9BN300)
10 µF, 25 V, X5R, 0603 Chip capacitor; Manufacturer: Samsung; Manufacturer Part Number: CL10A106MA8NRNC; house_part_number: C-10uF-0603-002; Material: 4241ConductorMaterial; Tolerance: 20%; Supplier 1: Arrow Electronics; Supplier Part Number 1: CL10A106MA8NRNC; RoHS: Yes; Category: Ceramic Capacitors; Stock: 632000; Pricing: 4000=0.0511, 8000=0.046, 12000=0.0434, 28000=0.0413, 100000=0.0356 (USD); Mounting Technology: Surface Mount; Case Code (Metric): 1608; Case Code (Imperial): 0603; Min Operating Temperature: -55°C; Max Operating Temperature: 85°C; Packaging: Cut Tape; Series: CL; Height: 900um; Lead Free: Lead Free; RoHS Compliant: Yes; ComponentLink1URL: https://datasheet.ciiva.com/25766/cl10a106ma8nrnc-25766562.pdf?src-supplier=Digikey; ComponentLink1Description: https://datasheet.ciiva.com/25766/cl10a106ma8nrnc-25766562.pdf?src-supplier=Digikey
footprint 0603_capacitor (Chip Capacitor, 2-Leads, Body 1.60x0.80mm, IPC Medium Density)
pins: 1, 2

## CNKT0240-19165A4
designator J?, comment LCD: CNKT0240-19165A4  contact_side: Top Contacts  Manufacturer Part Number: FC05-S18DCU-00
18-Pin, 0.5 mm pitch, top contact, flat flex connector for LCD CNKT0240-19165A4; LCD Part Number: CNKT0240-19165A4; Supplier Part Number 1: C2998853; Supplier 1: LCSC
footprint CNKT0240-19165A4
pins: 1 BL_K (power) "LED backlight (Cathode).", 2 BL_A (power) "LED backlight (Anode).", 3 VSS (power) "Power ground", 4 VDD (power) "System power supply.", 5 VDD (power) "System power supply.", 6 MESH1, 7 MESH2, 8 /CS (in) "Chip Select. Active low.", 9 /RESET (in) "Reset. Active low", 10 SCLK (in) "SPI clock", 11 RS (in) "Data/Command", 12 SDI (in) "SPI Data In", 13 SDO (out) "SPI Data Out", 14 VSS (power) "Power ground", 15 X+ "Touch panel", 16 Y+ "Touch panel", 17 X- "Touch panel", 18 Y- "Touch panel", MP, MP